# EAGLE library part AD5259 (library IC_Data-Conversion)
256-Position, Digital Potentiometer with I²C Interface Datasheet <https://www.analog.com/media/en/technical-documentation/data-sheets/AD5259.pdf>
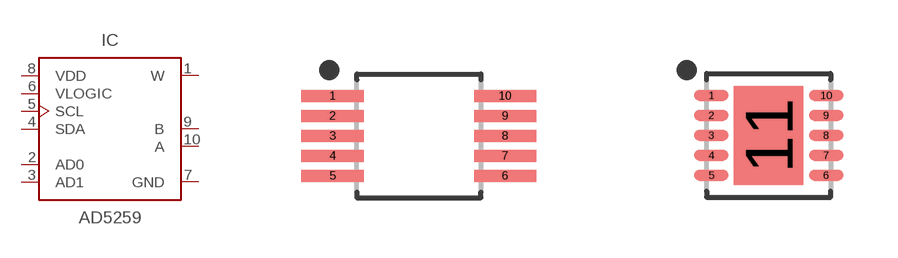
[diagram p2: symbol with the pads of SOP50P490X110-10N; footprints SOP50P490X110-10N, SON50P300X300X80-11T174X248N]

Designator prefix IC

## AD5259BRMZ1010-LEADMSOP (CATEGORY: IC_Data-Conversion; DESCRIPTION: I2 C-Compatible 256-Position, Digital Potentiometer; MANUFACTURER: Analog Devices; MPN: AD5259BRMZ10; OPERATING_TEMPERATURE: –40°C to +125°C; PART_STATUS: ACTIVE; ROHS_COMPLIANT: COMPLIANT; SERIES: AD5259; SUB_CATEGORY: Digital Potentiometer; VALUE: AD5259), AD5259BRMZ10010-LEADMSOP (CATEGORY: IC_Data-Conversion; DESCRIPTION: I2 C-Compatible 256-Position, Digital Potentiometer; MANUFACTURER: Analog Devices; MPN: AD5259BRMZ100; OPERATING_TEMPERATURE: –40°C to +125°C; PART_STATUS: ACTIVE; ROHS_COMPLIANT: COMPLIANT; SERIES: AD5259; SUB_CATEGORY: Digital Potentiometer; VALUE: AD5259), AD5259BRMZ510-LEADMSOP (CATEGORY: IC_Data-Conversion; DESCRIPTION: I2 C-Compatible 256-Position, Digital Potentiometer; MANUFACTURER: Analog Devices; MPN: AD5259BRMZ5; OPERATING_TEMPERATURE: –40°C to +125°C; PART_STATUS: ACTIVE; ROHS_COMPLIANT: COMPLIANT; SERIES: AD5259; SUB_CATEGORY: Digital Potentiometer; VALUE: AD5259), AD5259BRMZ5010-LEADMSOP (CATEGORY: IC_Data-Conversion; DESCRIPTION: I2 C-Compatible 256-Position, Digital Potentiometer; MANUFACTURER: Analog Devices; MPN: AD5259BRMZ50; OPERATING_TEMPERATURE: –40°C to +125°C; PART_STATUS: ACTIVE; ROHS_COMPLIANT: COMPLIANT; SERIES: AD5259; SUB_CATEGORY: Digital Potentiometer; VALUE: AD5259)  [SOP50P490X110-10N]
1  W  pwr
2  AD0  in
3  AD1  in
4  SDA
5  SCL  in
6  VLOGIC  pwr
7  GND  pwr
8  VDD  pwr
9  B  pwr
10  A  pwr

## AD5259BCPZ10-R710-LEADLFCSP_WD (CATEGORY: IC_Data-Conversion; DESCRIPTION: I2 C-Compatible 256-Position, Digital Potentiometer; MANUFACTURER: Analog Devices; MPN: AD5259BCPZ10-R7; OPERATING_TEMPERATURE: -40°C to +125°C; PART_STATUS: ACTIVE; ROHS_COMPLIANT: COMPLIANT; SERIES: AD5259; SUB_CATEGORY: Digital Potentiometer; VALUE: AD5259), AD5259BCPZ100-R710-LEADLFCSP_WD (CATEGORY: IC_Data-Conversion; DESCRIPTION: I2 C-Compatible 256-Position, Digital Potentiometer; MANUFACTURER: Analog Devices; MPN: AD5259BCPZ100-R7; OPERATING_TEMPERATURE: -40°C to +125°C; PART_STATUS: ACTIVE; ROHS_COMPLIANT: COMPLIANT; SERIES: AD5259; SUB_CATEGORY: Digital Potentiometer; VALUE: AD5259), AD5259BCPZ5-R710-LEADLFCSP_WD (CATEGORY: IC_Data-Conversion; DESCRIPTION: I2 C-Compatible 256-Position, Digital Potentiometer; MANUFACTURER: Analog Devices; MPN: AD5259BCPZ5-R7; OPERATING_TEMPERATURE: -40°C to +125°C; PART_STATUS: ACTIVE; ROHS_COMPLIANT: COMPLIANT; SERIES: AD5259; SUB_CATEGORY: Digital Potentiometer; VALUE: AD5259), AD5259BCPZ50-R710-LEADLFCSP_WD (CATEGORY: IC_Data-Conversion; DESCRIPTION: I2 C-Compatible 256-Position, Digital Potentiometer; MANUFACTURER: Analog Devices; MPN: AD5259BCPZ50-R7; OPERATING_TEMPERATURE: -40°C to +125°C; PART_STATUS: ACTIVE; ROHS_COMPLIANT: COMPLIANT; SERIES: AD5259; SUB_CATEGORY: Digital Potentiometer; VALUE: AD5259)  [SON50P300X300X80-11T174X248N]
1  W  pwr
2  AD0  in
3  AD1  in
4  SDA
5  SCL  in
6  VLOGIC  pwr
7  GND  pwr
8  VDD  pwr
9  B  pwr
10  A  pwr
11  GND  pwr

## Footprint SOP50P490X110-10N (pad centres in mm)
10-SOP, 0.50 mm pitch, 4.90 mm span, 3.00 X 3.00 X 1.10 mm body 10-pin SOP package with 0.50 mm pitch, 4.90 mm span with body size 3.00 X 3.00 X 1.10 mm
smd 1.551 x 0.3: 1 -2.156,1; 2 -2.156,0.5; 3 -2.156,0; 4 -2.156,-0.5; 5 -2.156,-1; 6 2.156,-1; 7 2.156,-0.5; 8 2.156,0; 9 2.156,0.5; 10 2.156,1

## Footprint SON50P300X300X80-11T174X248N (pad centres in mm)
10-SON (DFN), 0.50 mm pitch, 3.00 X 3.00 X 0.80 mm body, 2.48 X 1.74 mm thermal pad 10-pin SON (DFN) package with 0.50mm pitch, with body size 3.00 X 3.00 X 0.80 mm and thermal pad size 2.48 X 1.74 mm
smd 0.862 x 0.274: 1 -1.435,1; 2 -1.435,0.5; 3 -1.435,0; 4 -1.435,-0.5; 5 -1.435,-1; 6 1.435,-1; 7 1.435,-0.5; 8 1.435,0; 9 1.435,0.5; 10 1.435,1
smd 1.74 x 2.48: 11 0,0